# Altium schematic symbol library IC_CpuMcu.SchLib: 6 symbols
Pins are listed as number, name and electrical type; pins without a type are passive.

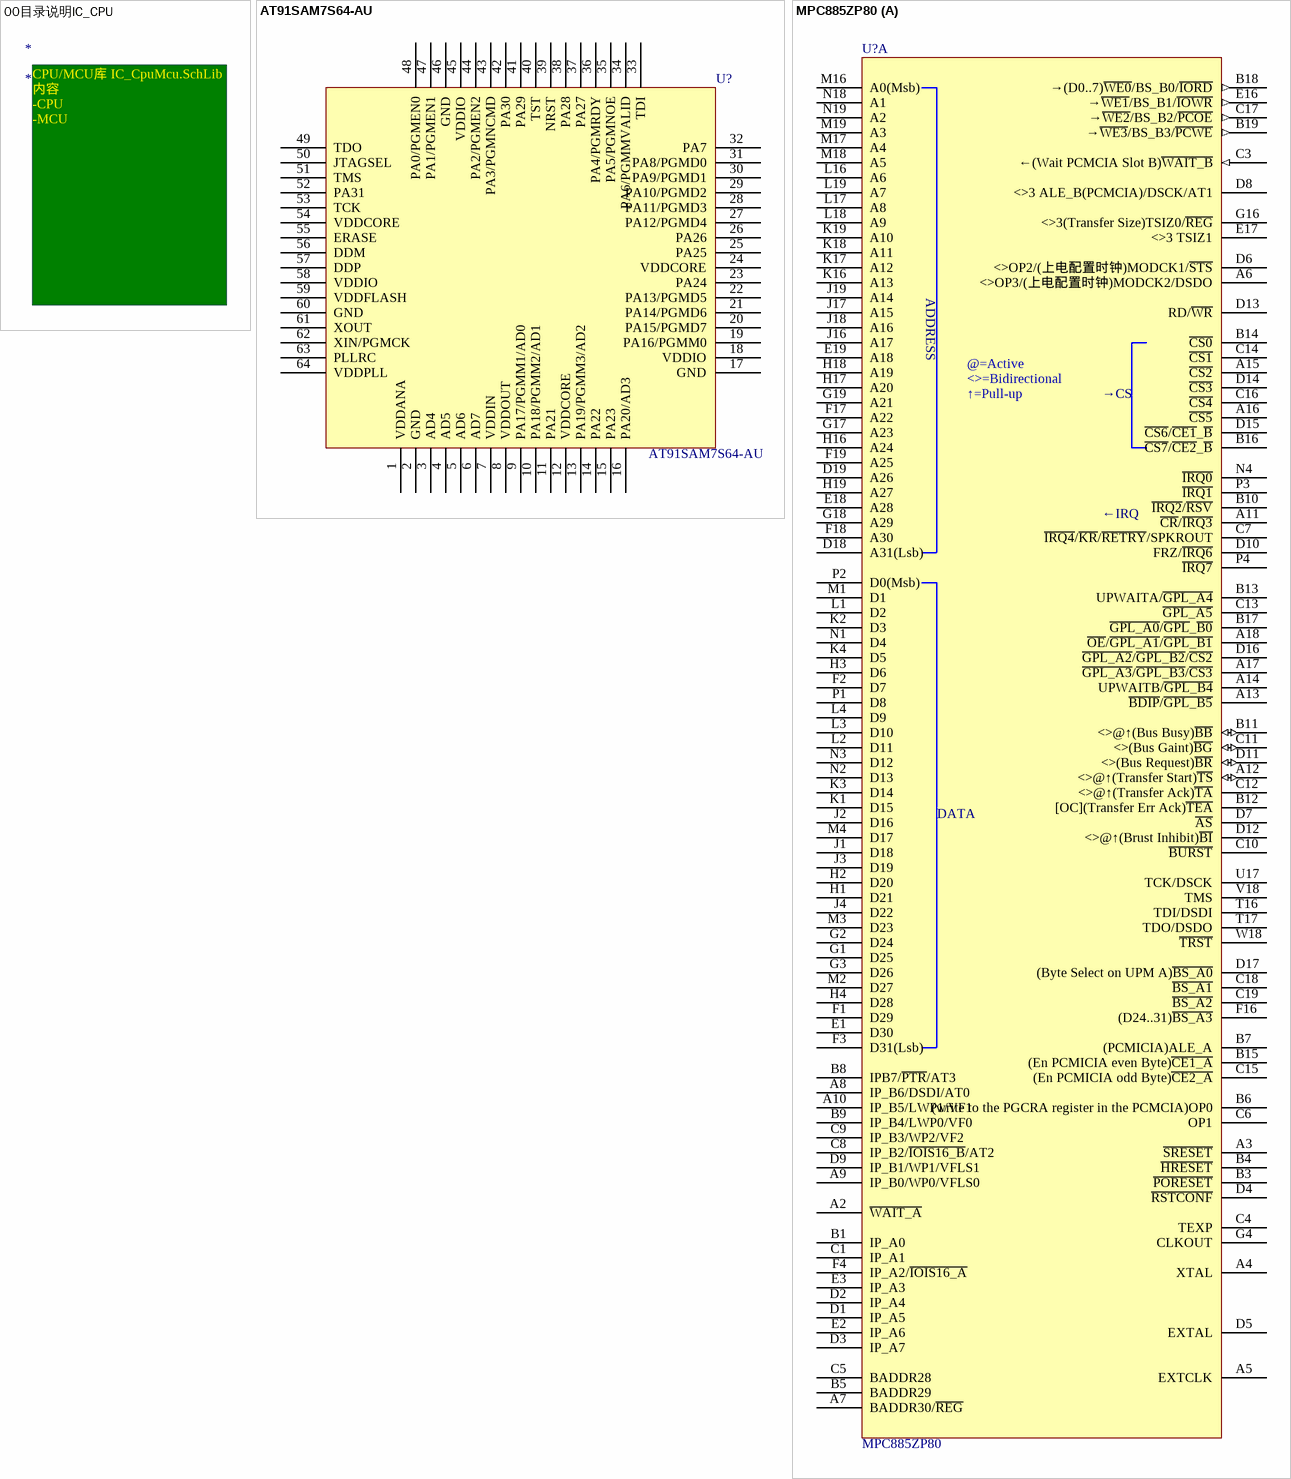
[diagram p0: symbols 00目录说明IC_CPU to MPC885ZP80]

## 00目录说明IC_CPU
designator *
text: CPU/MCU库 IC_CpuMcu.SchLib / 内容 / -CPU / -MCU /

## AT91SAM7S64-AU
designator U?
AT91 ARM@Thumb@-based   Microcontrollers, 64K Flash, 16K SRAM; Manufacturer: ATMEL; Name: ARM7处理器; Ordering NO.: AT91SAM7S64-AU
footprint LQFP64/0.5_10*10 (AT91SAM7S64使用  64引脚)
pins: 1 VDDANA, 2 GND, 3 AD4, 4 AD5, 5 AD6, 6 AD7, 7 VDDIN, 8 VDDOUT, 9 PA17/PGMM1/AD0, 10 PA18/PGMM2/AD1, 11 PA21, 12 VDDCORE, 13 PA19/PGMM3/AD2, 14 PA22, 15 PA23, 16 PA20/AD3, 17 GND, 18 VDDIO, 19 PA16/PGMM0, 20 PA15/PGMD7, 21 PA14/PGMD6, 22 PA13/PGMD5, 23 PA24, 24 VDDCORE, 25 PA25, 26 PA26, 27 PA12/PGMD4, 28 PA11/PGMD3, 29 PA10/PGMD2, 30 PA9/PGMD1, 31 PA8/PGMD0, 32 PA7, 33 TDI, 34 PA6/PGMMVALID, 35 PA5/PGMNOE, 36 PA4/PGMRDY, 37 PA27, 38 PA28, 39 NRST, 40 TST, 41 PA29, 42 PA30, 43 PA3/PGMNCMD, 44 PA2/PGMEN2, 45 VDDIO, 46 GND, 47 PA1/PGMEN1, 48 PA0/PGMEN0, 49 TDO, 50 JTAGSEL, 51 TMS, 52 PA31, 53 TCK, 54 VDDCORE, 55 ERASE, 56 DDM, 57 DDP, 58 VDDIO, 59 VDDFLASH, 60 GND, 61 XOUT, 62 XIN/PGMCK, 63 PLLRC, 64 VDDPLL

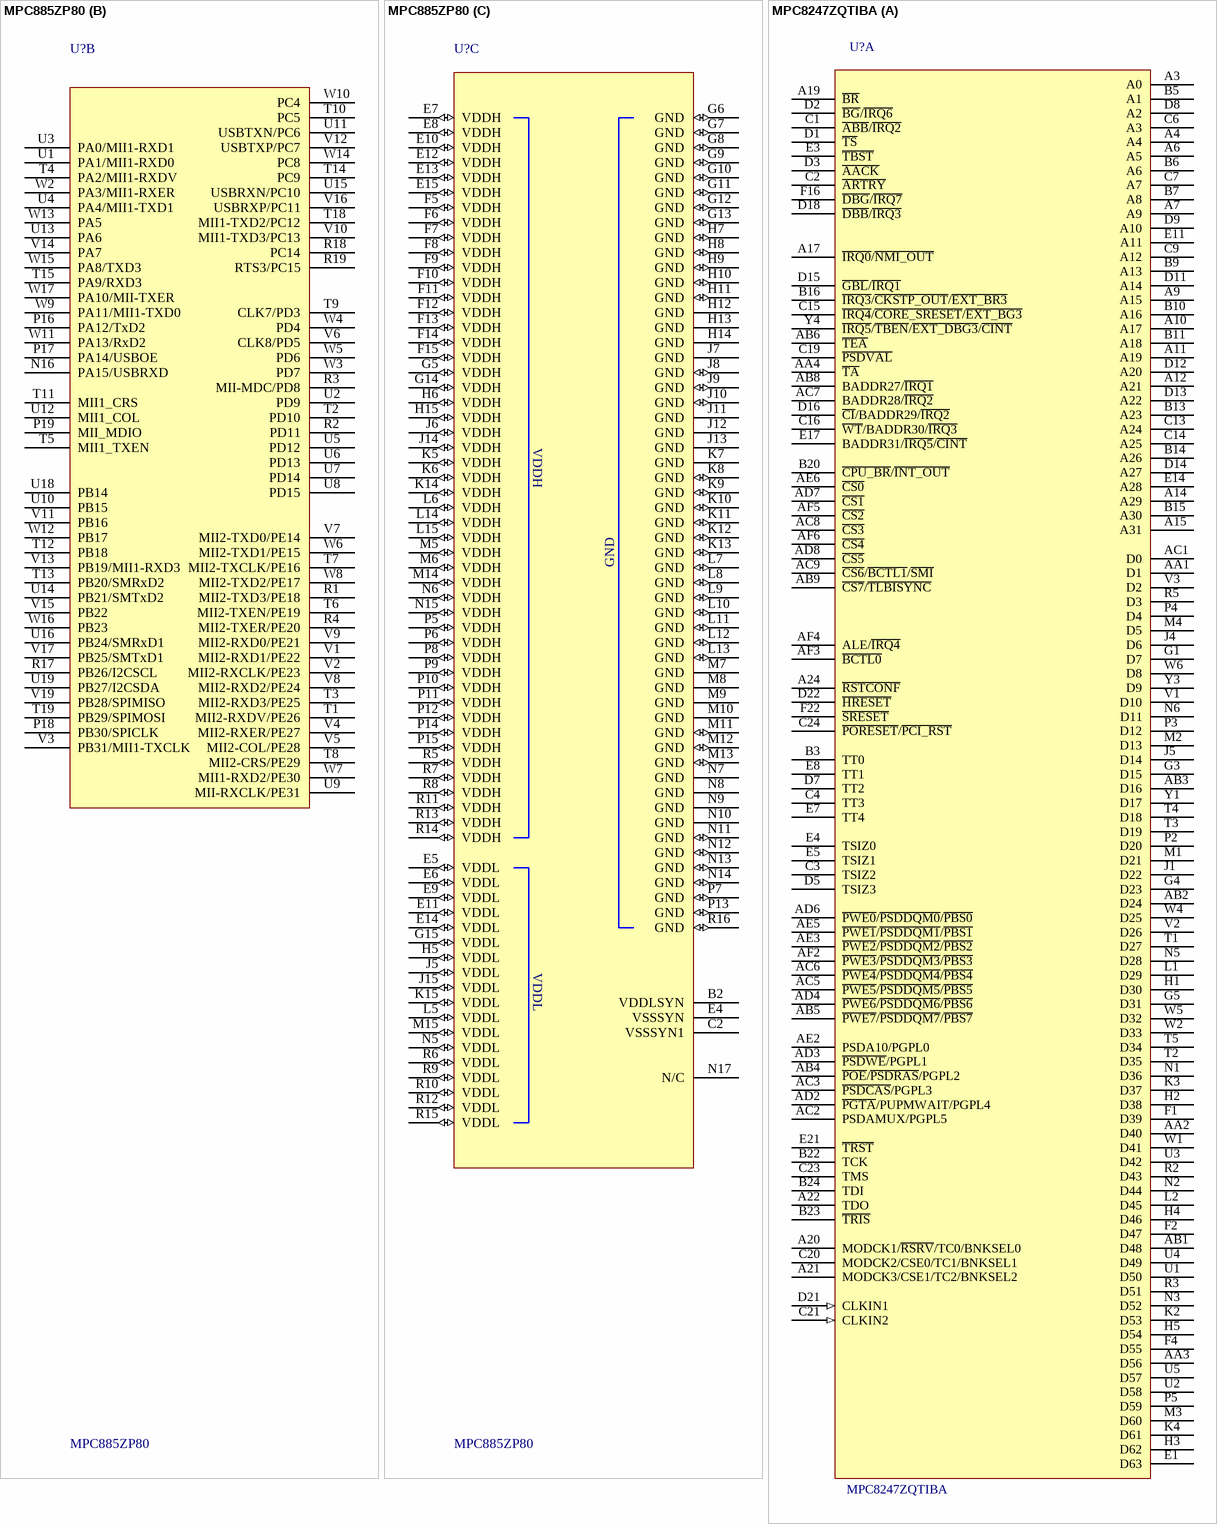
[diagram p1: symbols MPC885ZP80 to MPC8247ZQTIBA]

## MPC885ZP80
designator U?
The CPU on the MPC885/MPC880 is   a 32-bit PowerPC? core that incorporates memory management   units (MMUs) and instruction and data caches and that   implements the PowerPC instruction set.; Manufacturer: Freescale; 物料说明: MPC885; 物料替代型号: MPC885ZP133; 物料型号说明: 有铅80MHz; Name: 微处理器; Price: 120; Ordering NO.: MPC885ZP80
footprint PBGA357/1.27_19*19 (PBGA,357 Leads,pitch=50mil,19行，19列BGA封装)
part A pins: A2 ~{WAIT_A}, A3 ~{SRESET}, A4 XTAL, A5 EXTCLK, A6 <>OP3/(上电配置时钟)MODCK2/DSDO, A7 BADDR30/~{REG}, A8 IP_B6/DSDI/AT0, A9 IP_B0/WP0/VFLS0, A10 IP_B5/LWP1/VF1, A11 ~{CR}/~{IRQ3}, A12 <>@↑(Transfer Start)~{TS} (io), A13 ~{BDIP}/~{GPL_B5}, A14 UPWAITB/~{GPL_B4}, A15 ~{CS2}, A16 ~{CS5}, A17 ~{GPL_A3}/~{GPL_B3}/~{CS3}, A18 ~{OE}/~{GPL_A1}/~{GPL_B1}, B1 IP_A0, B3 ~{PORESET}, B4 ~{HRESET}, B5 BADDR29, B6 (write to the PGCRA register in the PCMCIA)OP0, B7 (PCMICIA)ALE_A, B8 IPB7/~{PTR}/AT3, B9 IP_B4/LWP0/VF0, B10 ~{IRQ2}/~{RSV}, B11 <>@↑(Bus Busy)~{BB} (io), B12 [OC](Transfer Err Ack)~{TEA} (oc), B13 UPWAITA/~{GPL_A4}, B14 ~{CS0}, B15 (En PCMICIA even Byte)~{CE1_A}, B16 ~{CS7}/~{CE2}_~{B}, B17 ~{GPL_A0}/~{GPL}_~{B0}, B18 →(D0..7)~{WE0}/BS_B0/~{IORD} (out), B19 →~{WE3}/BS_B3/~{PCWE} (out), C1 IP_A1, C3 ←(Wait PCMCIA Slot B)~{WAIT_B} (in), C4 TEXP, C5 BADDR28, C6 OP1, C7 ~{IRQ4}/~{KR}/~{RETRY}/SPKROUT, C8 IP_B2/~{IOIS16_B}/AT2, C9 IP_B3/WP2/VF2, C10 ~{BURST}, C11 <>(Bus Gaint)~{BG} (io), C12 <>@↑(Transfer Ack)~{TA}, C13 ~{GPL_A5}, C14 ~{CS1}, C15 (En PCMICIA odd Byte)~{CE2_A}, C16 ~{CS4}, C17 →~{WE2}/BS_B2/~{PCOE} (out), C18 ~{BS_A1}, C19 ~{BS_A2}, D1 IP_A5, D2 IP_A4, D3 IP_A7, D4 ~{RSTCONF}, D5 EXTAL, D6 <>OP2/(上电配置时钟)MODCK1/~{STS}, D7 ~{AS}, D8 <>3 ALE_B(PCMCIA)/DSCK/AT1, D9 IP_B1/WP1/VFLS1, D10 FRZ/~{IRQ6}, D11 <>(Bus Request)~{BR} (io), D12 <>@↑(Brust Inhibit)~{BI}, D13 RD/~{WR}, D14 ~{CS3}, D15 ~{CS6}/~{CE1}_~{B}, D16 ~{GPL_A2}/~{GPL_B2}/~{CS2}, D17 (Byte Select on UPM A)~{BS_A0}, D18 A31(Lsb), D19 A26, E1 D30, E2 IP_A6, E3 IP_A3, E16 →~{WE1}/BS_B1/~{IOWR} (out), E17 <>3 TSIZ1, E18 A28, E19 A18, F1 D29, F2 D7, F3 D31(Lsb), F4 IP_A2/~{IOIS16_A}, F16 (D24..31)~{BS_A3}, F17 A22, F18 A30, F19 A25, G1 D25, G2 D24, G3 D26, G4 CLKOUT, G16 <>3(Transfer Size)TSIZ0/~{REG}, G17 A23, G18 A29, G19 A21, H1 D21, H2 D20, H3 D6, H4 D28, H16 A24, H17 A20, H18 A19, H19 A27, J1 D18, J2 D16, J3 D19, J4 D22, J16 A17, J17 A15, J18 A16, J19 A14, K1 D15, K2 D3, K3 D14, K4 D5, K16 A13, K17 A12, K18 A11, K19 A10, L1 D2, L2 D11, L3 D10, L4 D9, L16 A6, L17 A8, L18 A9, L19 A7, M1 D1, M2 D27, M3 D23, M4 D17, M16 A0(Msb), M17 A4, M18 A5, M19 A3, N1 D4, N2 D13, N3 D12, N4 ~{IRQ0}, N18 A1, N19 A2, P1 D8, P2 D0(Msb), P3 ~{IRQ1}, P4 ~{IRQ7}, T16 TDI/DSDI, T17 TDO/DSDO, U17 TCK/DSCK, V18 TMS, W18 ~{TRST}
part B pins: N16 PA15/USBRXD, P16 PA12/TxD2, P17 PA14/USBOE, P18 PB30/SPICLK, P19 MII_MDIO, R1 MII2-TXD3/PE18, R2 PD11, R3 MII-MDC/PD8, R4 MII2-TXER/PE20, R17 PB26/I2CSCL, R18 PC14, R19 RTS3/PC15, T1 MII2-RXDV/PE26, T2 PD10, T3 MII2-RXD3/PE25, T4 PA2/MII1-RXDV, T5 MII1_TXEN, T6 MII2-TXEN/PE19, T7 MII2-TXCLK/PE16, T8 MII2-CRS/PE29, T9 CLK7/PD3, T10 PC5, T11 MII1_CRS, T12 PB18, T13 PB20/SMRxD2, T14 PC9, T15 PA9/RXD3, T18 MII1-TXD2/PC12, T19 PB29/SPIMOSI, U1 PA1/MII1-RXD0, U2 PD9, U3 PA0/MII1-RXD1, U4 PA4/MII1-TXD1, U5 PD12, U6 PD13, U7 PD14, U8 PD15, U9 MII-RXCLK/PE31, U10 PB15, U11 USBTXN/PC6, U12 MII1_COL, U13 PA6, U14 PB21/SMTxD2, U15 USBRXN/PC10, U16 PB24/SMRxD1, U18 PB14, U19 PB27/I2CSDA, V1 MII2-RXD1/PE22, V2 MII2-RXCLK/PE23, V3 PB31/MII1-TXCLK, V4 MII2-RXER/PE27, V5 MII2-COL/PE28, V6 CLK8/PD5, V7 MII2-TXD0/PE14, V8 MII2-RXD2/PE24, V9 MII2-RXD0/PE21, V10 MII1-TXD3/PC13, V11 PB16, V12 USBTXP/PC7, V13 PB19/MII1-RXD3, V14 PA7, V15 PB22, V16 USBRXP/PC11, V17 PB25/SMTxD1, V19 PB28/SPIMISO, W2 PA3/MII1-RXER, W3 PD7, W4 PD4, W5 PD6, W6 MII2-TXD1/PE15, W7 MII1-RXD2/PE30, W8 MII2-TXD2/PE17, W9 PA11/MII1-TXD0, W10 PC4, W11 PA13/RxD2, W12 PB17, W13 PA5, W14 PC8, W15 PA8/TXD3, W16 PB23, W17 PA10/MII-TXER
part C pins: B2 VDDLSYN, C2 VSSSYN1, E4 VSSSYN, E5 VDDL (io), E6 VDDL (io), E7 VDDH (io), E8 VDDH (io), E9 VDDL (io), E10 VDDH (io), E11 VDDL (io), E12 VDDH (io), E13 VDDH (io), E14 VDDL (io), E15 VDDH (io), F5 VDDH (io), F6 VDDH (io), F7 VDDH (io), F8 VDDH (io), F9 VDDH (io), F10 VDDH (io), F11 VDDH (io), F12 VDDH (io), F13 VDDH (io), F14 VDDH (io), F15 VDDH (io), G5 VDDH (io), G6 GND (io), G7 GND (io), G8 GND (io), G9 GND (io), G10 GND (io), G11 GND (io), G12 GND (io), G13 GND (io), G14 VDDH (io), G15 VDDL (io), H5 VDDL (io), H6 VDDH (io), H7 GND (io), H8 GND (io), H9 GND (io), H10 GND (io), H11 GND (io), H12 GND, H13 GND, H14 GND, H15 VDDH (io), J5 VDDL (io), J6 VDDH (io), J7 GND, J8 GND (io), J9 GND (io), J10 GND (io), J11 GND, J12 GND, J13 GND, J14 VDDH (io), J15 VDDL (io), K5 VDDH (io), K6 VDDH (io), K7 GND, K8 GND (io), K9 GND (io), K10 GND (io), K11 GND (io), K12 GND (io), K13 GND (io), K14 VDDH (io), K15 VDDL (io), L5 VDDL (io), L6 VDDH (io), L7 GND (io), L8 GND (io), L9 GND (io), L10 GND (io), L11 GND (io), L12 GND (io), L13 GND (io), L14 VDDH (io), L15 VDDH (io), M5 VDDH (io), M6 VDDH (io), M7 GND, M8 GND, M9 GND, M10 GND, M11 GND (io), M12 GND (io), M13 GND (io), M14 VDDH (io), M15 VDDL (io), N5 VDDL (io), N6 VDDH (io), N7 GND, N8 GND, N9 GND, N10 GND, N11 GND (io), N12 GND (io), N13 GND (io), N14 GND (io), N15 VDDH (io), N17 N/C, P5 VDDH (io), P6 VDDH (io), P7 GND (io), P8 VDDH (io), P9 VDDH (io), P10 VDDH (io), P11 VDDH (io), P12 VDDH (io), P13 GND (io), P14 VDDH (io), P15 VDDH (io), R5 VDDH (io), R6 VDDL (io), R7 VDDH (io), R8 VDDH (io), R9 VDDL (io), R10 VDDL (io), R11 VDDH (io), R12 VDDL (io), R13 VDDH (io), R14 VDDH (io), R15 VDDL (io), R16 GND (io)
part A text: ADDRESS; @=Active; <>=Bidirectional; ↑=Pull-up; →CS; ←IRQ; DATA

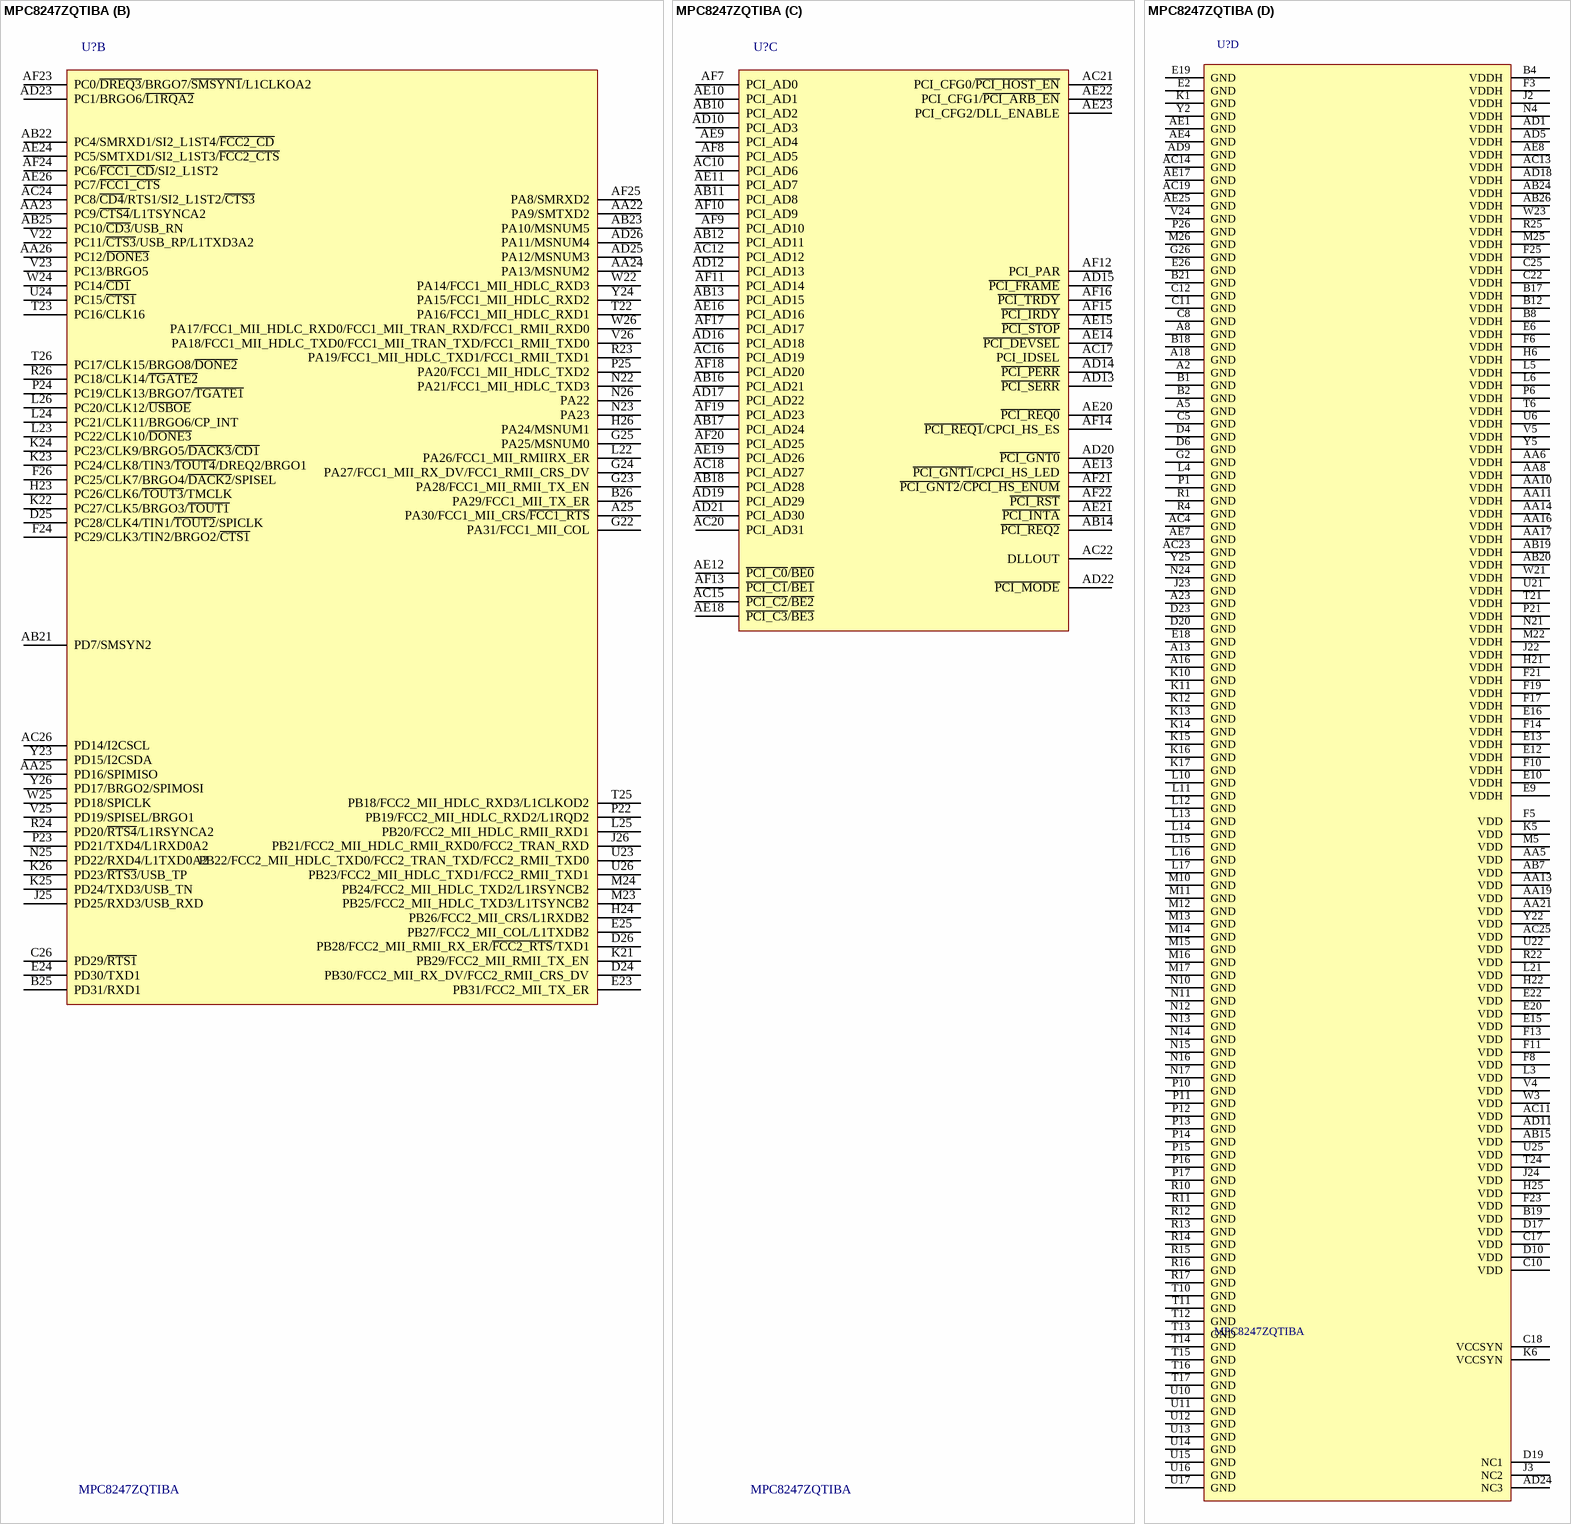
[diagram p2: symbol MPC8247ZQTIBA]

## MPC8247ZQTIBA
designator U?
PowerQUICC II Family  Hardware Specifications; Manufacturer: Freescale; Name: 微处理器; Ordering NO.: MPC8247ZQTIBA
footprint PBGA516/1.0_26*26
part A pins: A3 A0, A4, A6 A5, A7 A9, A9 A15, A10 A17, A11 A19, A12 A21, A14 A29, A15 A31, A17 ~{IRQ0}/~{NMI_OUT}, A19 ~{BR}, A20 MODCK1/~{RSRV}/TC0/BNKSEL0, A21 MODCK3/CSE1/TC2/BNKSEL2, A22 TDO, A24 ~{RSTCONF}, AA1 D1, AA2 D40, AA3 D56, AA4 ~{TA}, AB1 D48, AB2 D24, AB3 D16, AB4 ~{POE}/~{PSDRAS}/PGPL2, AB5 ~{PWE7}/~{PSDDQM7}/~{PBS7}, AB6 ~{TEA}, AB8 BADDR27/~{IRQ1}, AB9 ~{CS7}/~{TLBISYNC}, AC1 D0, AC2 PSDAMUX/PGPL5, AC3 ~{PSDCAS}/PGPL3, AC5 ~{PWE5}/~{PSDDQM5}/~{PBS5}, AC6 ~{PWE4}/~{PSDDQM4}/~{PBS4}, AC7 BADDR28/~{IRQ2}, AC8 ~{CS3}, AC9 ~{CS6}/~{BCTL1}/~{SMI}, AD2 ~{PGTA}/PUPMWAIT/PGPL4, AD3 ~{PSDWE}/PGPL1, AD4 ~{PWE6}/~{PSDDQM6}/~{PBS6}, AD6 ~{PWE0}/~{PSDDQM0}/~{PBS0}, AD7 ~{CS1}, AD8 ~{CS5}, AE2 PSDA10/PGPL0, AE3 ~{PWE2}/~{PSDDQM2}/~{PBS2}, AE5 ~{PWE1}/~{PSDDQM1}/~{PBS1}, AE6 ~{CS0}, AF2 ~{PWE3}/~{PSDDQM3}/~{PBS3}, AF3 ~{BCTL0}, AF4 ALE/~{IRQ4}, AF5 ~{CS2}, AF6 ~{CS4}, B3 TT0, B5 A1, B6 A6, B7 A8, B9 A13, B10 A16, B11 A18, B13 A23, B14 A26, B15 A30, B16 ~{IRQ3}/~{CKSTP_OUT}/~{EXT_BR3}, B20 ~{CPU_BR}/~{INT_OUT}, B22 TCK, B23 ~{TRIS}, B24 TDI, C1 ~{ABB}/~{IRQ2}, C2 ~{ARTRY}, C3 TSIZ2, C4 TT3, C6 A3, C7 A7, C9 A12, C13 A24, C14 A25, C15 ~{IRQ4}/~{CORE_SRESET}/~{EXT_BG3}, C16 ~{WT}/BADDR30/~{IRQ3}, C19 ~{PSDVAL}, C20 MODCK2/CSE0/TC1/BNKSEL1, C21 CLKIN2 (in), C23 TMS, C24 ~{PORESET}/~{PCI_RST}, D1 ~{TS}, D2 ~{BG}/~{IRQ6}, D3 ~{AACK}, D5 TSIZ3, D7 TT2, D8 A2, D9 A10, D11 A14, D12 A20, D13 A22, D14 A27, D15 ~{GBL}/~{IRQ1}, D16 ~{CI}/BADDR29/~{IRQ2}, D18 ~{DBB}/~{IRQ3}, D21 CLKIN1 (in), D22 ~{HRESET}, E1 D63, E3 ~{TBST}, E4 TSIZ0, E5 TSIZ1, E7 TT4, E8 TT1, E11 A11, E14 A28, E17 BADDR31/~{IRQ5}/~{CINT}, E21 ~{TRST}, F1 D39, F2 D47, F4 D55, F16 ~{DBG}/~{IRQ7}, F22 ~{SRESET}, G1 D7, G3 D15, G4 D23, G5 D31, H1 D30, H2 D38, H3 D62, H4 D46, H5 D54, J1 D22, J4 D6, J5 D14, K2 D53, K3 D37, K4 D61, L1 D29, L2 D45, M1 D21, M2 D13, M3 D60, M4 D5, N1 D36, N2 D44, N3 D52, N5 D28, N6 D11, P2 D20, P3 D12, P4 D4, P5 D59, R2 D43, R3 D51, R5 D3, T1 D27, T2 D35, T3 D19, T4 D18, T5 D34, U1 D50, U2 D58, U3 D42, U4 D49, U5 D57, V1 D10, V2 D26, V3 D2, W1 D41, W2 D33, W4 D25, W5 D32, W6 D8, Y1 D17, Y3 D9, Y4 ~{IRQ5}/~{TBEN}/~{EXT_DBG3}/~{CINT}
part B pins: A25 PA30/FCC1_MII_CRS/~{FCC1_RTS}, AA22 PA9/SMTXD2, AA23 PC9/~{CTS4}/L1TSYNCA2, AA24 PA13/MSNUM2, AA25 PD16/SPIMISO, AA26 PC12/~{DONE3}, AB21 PD7/SMSYN2, AB22 PC4/SMRXD1/SI2_L1ST4/~{FCC2_CD}, AB23 PA10/MSNUM5, AB25 PC10/~{CD3}/USB_RN, AC24 PC8/~{CD4}/RTS1/SI2_L1ST2/~{CTS3}, AC26 PD14/I2CSCL, AD23 PC1/BRGO6/~{L1RQA2}, AD25 PA12/MSNUM3, AD26 PA11/MSNUM4, AE24 PC5/SMTXD1/SI2_L1ST3/~{FCC2_CTS}, AE26 PC7/~{FCC1_CTS}, AF23 PC0/~{DREQ3}/BRGO7/~{SMSYN1}/L1CLKOA2, AF24 PC6/~{FCC1_CD}/SI2_L1ST2, AF25 PA8/SMRXD2, B25 PD31/RXD1, B26 PA29/FCC1_MII_TX_ER, C26 PD29/~{RTS1}, D24 PB30/FCC2_MII_RX_DV/FCC2_RMII_CRS_DV, D25 PC28/CLK4/TIN1/~{TOUT2}/SPICLK, D26 PB28/FCC2_MII_RMII_RX_ER/~{FCC2_RTS}/TXD1, E23 PB31/FCC2_MII_TX_ER, E24 PD30/TXD1, E25 PB27/FCC2_MII_COL/L1TXDB2, F24 PC29/CLK3/TIN2/BRGO2/~{CTS1}, F26 PC25/CLK7/BRGO4/~{DACK2}/SPISEL, G22 PA31/FCC1_MII_COL, G23 PA28/FCC1_MII_RMII_TX_EN, G24 PA27/FCC1_MII_RX_DV/FCC1_RMII_CRS_DV, G25 PA25/MSNUM0, H23 PC26/CLK6/~{TOUT3}/TMCLK, H24 PB26/FCC2_MII_CRS/L1RXDB2, H26 PA24/MSNUM1, J25 PD25/RXD3/USB_RXD, J26 PB21/FCC2_MII_HDLC_RMII_RXD0/FCC2_TRAN_RXD, K21 PB29/FCC2_MII_RMII_TX_EN, K22 PC27/CLK5/BRGO3/~{TOUT1}, K23 PC24/CLK8/TIN3/~{TOUT4}/DREQ2/BRGO1, K24 PC23/CLK9/BRGO5/~{DACK3}/~{CD1}, K25 PD24/TXD3/USB_TN, K26 PD23/~{RTS3}/USB_TP, L22 PA26/FCC1_MII_RMIIRX_ER, L23 PC22/CLK10/~{DONE3}, L24 PC21/CLK11/BRGO6/CP_INT, L25 PB20/FCC2_MII_HDLC_RMII_RXD1, L26 PC20/CLK12/~{USBOE}, M23 PB25/FCC2_MII_HDLC_TXD3/L1TSYNCB2, M24 PB24/FCC2_MII_HDLC_TXD2/L1RSYNCB2, N22 PA21/FCC1_MII_HDLC_TXD3, N23 PA23, N25 PD22/RXD4/L1TXD0A2, N26 PA22, P22 PB19/FCC2_MII_HDLC_RXD2/L1RQD2, P23 PD21/TXD4/L1RXD0A2, P24 PC19/CLK13/BRGO7/~{TGATE1}, P25 PA20/FCC1_MII_HDLC_TXD2, R23 PA19/FCC1_MII_HDLC_TXD1/FCC1_RMII_TXD1, R24 PD20/~{RTS4}/L1RSYNCA2, R26 PC18/CLK14/~{TGATE2}, T22 PA16/FCC1_MII_HDLC_RXD1, T23 PC16/CLK16, T25 PB18/FCC2_MII_HDLC_RXD3/L1CLKOD2, T26 PC17/CLK15/BRGO8/~{DONE2}, U23 PB22/FCC2_MII_HDLC_TXD0/FCC2_TRAN_TXD/FCC2_RMII_TXD0, U24 PC15/~{CTS1}, U26 PB23/FCC2_MII_HDLC_TXD1/FCC2_RMII_TXD1, V22 PC11/~{CTS3}/USB_RP/L1TXD3A2, V23 PC13/BRGO5, V25 PD19/SPISEL/BRGO1, V26 PA18/FCC1_MII_HDLC_TXD0/FCC1_MII_TRAN_TXD/FCC1_RMII_TXD0, W22 PA14/FCC1_MII_HDLC_RXD3, W24 PC14/~{CD1}, W25 PD18/SPICLK, W26 PA17/FCC1_MII_HDLC_RXD0/FCC1_MII_TRAN_RXD/FCC1_RMII_RXD0, Y23 PD15/I2CSDA, Y24 PA15/FCC1_MII_HDLC_RXD2, Y26 PD17/BRGO2/SPIMOSI
part C pins: AB10 PCI_AD2, AB11 PCI_AD8, AB12 PCI_AD11, AB13 PCI_AD15, AB14 ~{PCI_REQ2}, AB16 PCI_AD21, AB17 PCI_AD24, AB18 PCI_AD28, AC10 PCI_AD6, AC12 PCI_AD12, AC15 ~{PCI_C2}/~{BE2}, AC16 PCI_AD19, AC17 PCI_IDSEL, AC18 PCI_AD27, AC20 PCI_AD31, AC21 PCI_CFG0/~{PCI_HOST_EN}, AC22 DLLOUT, AD10 PCI_AD3, AD12 PCI_AD13, AD13 ~{PCI_SERR}, AD14 ~{PCI_PERR}, AD15 ~{PCI_FRAME}, AD16 PCI_AD18, AD17 PCI_AD22, AD19 PCI_AD29, AD20 ~{PCI_GNT0}, AD21 PCI_AD30, AD22 ~{PCI_MODE}, AE9 PCI_AD4, AE10 PCI_AD1, AE11 PCI_AD7, AE12 ~{PCI_C0}/~{BE0}, AE13 ~{PCI_GNT1}/CPCI_HS_LED, AE14 ~{PCI_DEVSEL}, AE15 ~{PCI_STOP}, AE16 PCI_AD16, AE18 ~{PCI_C3}/~{BE3}, AE19 PCI_AD26, AE20 ~{PCI_REQ0}, AE21 ~{PCI_INTA}, AE22 PCI_CFG1/~{PCI_ARB_EN}, AE23 PCI_CFG2/DLL_ENABLE, AF7 PCI_AD0, AF8 PCI_AD5, AF9 PCI_AD10, AF10 PCI_AD9, AF11 PCI_AD14, AF12 PCI_PAR, AF13 ~{PCI_C1}/~{BE1}, AF14 ~{PCI_REQ1}/CPCI_HS_ES, AF15 ~{PCI_IRDY}, AF16 ~{PCI_TRDY}, AF17 PCI_AD17, AF18 PCI_AD20, AF19 PCI_AD23, AF20 PCI_AD25, AF21 ~{PCI_GNT2}/~{CPCI_HS_ENUM}, AF22 ~{PCI_RST}
part D pins: A2 GND (power), A5 GND (power), A8 GND (power), A13 GND (power), A16 GND (power), A18 GND (power), A23 GND (power), AA5 VDD (power), AA6 VDDH (power), AA8 VDDH (power), AA10 VDDH (power), AA11 VDDH (power), AA13 VDD (power), AA14 VDDH (power), AA16 VDDH (power), AA17 VDDH (power), AA19 VDD (power), AA21 VDD (power), AB7 VDD (power), AB15 VDD (power), AB19 VDDH (power), AB20 VDDH (power), AB24 VDDH (power), AB26 VDDH (power), AC4 GND (power), AC11 VDD (power), AC13 VDDH (power), AC14 GND (power), AC19 GND (power), AC23 GND (power), AC25 VDD (power), AD1 VDDH (power), AD5 VDDH (power), AD9 GND (power), AD11 VDD (power), AD18 VDDH (power), AD24 NC3, AE1 GND (power), AE4 GND (power), AE7 GND (power), AE8 VDDH (power), AE17 GND (power), AE25 GND (power), B1 GND (power), B2 GND (power), B4 VDDH (power), B8 VDDH (power), B12 VDDH (power), B17 VDDH (power), B18 GND (power), B19 VDD (power), B21 GND (power), C5 GND (power), C8 GND (power), C10 VDD (power), C11 GND (power), C12 GND (power), C17 VDD (power), C18 VCCSYN (power), C22 VDDH (power), C25 VDDH (power), D4 GND (power), D6 GND (power), D10 VDD (power), D17 VDD (power), D19 NC1, D20 GND (power), D23 GND (power), E2 GND (power), E6 VDDH (power), E9 VDDH (power), E10 VDDH (power), E12 VDDH (power), E13 VDDH (power), E15 VDD (power), E16 VDDH (power), E18 GND (power), E19 GND (power), E20 VDD (power), E22 VDD (power), E26 GND (power), F3 VDDH (power), F5 VDD (power), F6 VDDH (power), F8 VDD (power), F10 VDDH (power), F11 VDD (power), F13 VDD (power), F14 VDDH (power), F17 VDDH (power), F19 VDDH (power), F21 VDDH (power), F23 VDD (power), F25 VDDH (power), G2 GND (power), G26 GND (power), H6 VDDH (power), H21 VDDH (power), H22 VDD (power), H25 VDD (power), J2 VDDH (power), J3 NC2, J22 VDDH (power), J23 GND (power), J24 VDD (power), K1 GND (power), K5 VDD (power), K6 VCCSYN (power), K10 GND (power), K11 GND (power), K12 GND (power), K13 GND (power), K14 GND (power), K15 GND (power), K16 GND (power), K17 GND (power), L3 VDD (power), L4 GND (power), L5 VDDH (power), L6 VDDH (power), L10 GND (power), L11 GND (power), L12 GND (power), L13 GND (power), L14 GND (power), L15 GND (power), L16 GND (power), L17 GND (power), L21 VDD (power), M5 VDD (power), M10 GND (power), M11 GND (power), M12 GND (power), M13 GND (power), M14 GND (power), M15 GND (power), M16 GND (power), M17 GND (power), M22 VDDH (power), M25 VDDH (power), M26 GND (power), N4 VDDH (power), N10 GND (power), N11 GND (power), N12 GND (power), N13 GND (power), N14 GND (power), N15 GND (power), N16 GND (power), N17 GND (power), N21 VDDH (power), N24 GND (power), P1 GND (power), P6 VDDH (power), P10 GND (power), P11 GND (power), P12 GND (power), P13 GND (power), P14 GND (power), P15 GND (power), P16 GND (power), P17 GND (power), P21 VDDH (power), P26 GND (power), R1 GND (power), R4 GND (power), R10 GND (power), R11 GND (power), R12 GND (power), R13 GND (power), R14 GND (power), R15 GND (power), R16 GND (power), R17 GND (power), R22 VDD (power), R25 VDDH (power), T6 VDDH (power), T10 GND (power), T11 GND (power), T12 GND (power), T13 GND (power), T14 GND (power), T15 GND (power), T16 GND (power), T17 GND (power), T21 VDDH (power), T24 VDD (power), U6 VDDH (power), U10 GND (power), U11 GND (power), U12 GND (power), U13 GND (power), U14 GND (power), U15 GND (power), U16 GND (power), U17 GND (power), U21 VDDH (power), U22 VDD (power), U25 VDD (power), V4 VDD (power), V5 VDDH (power), V24 GND (power), W3 VDD (power), W21 VDDH (power), W23 VDDH (power), Y2 GND (power), Y5 VDDH (power), Y22 VDD (power), Y25 GND (power)

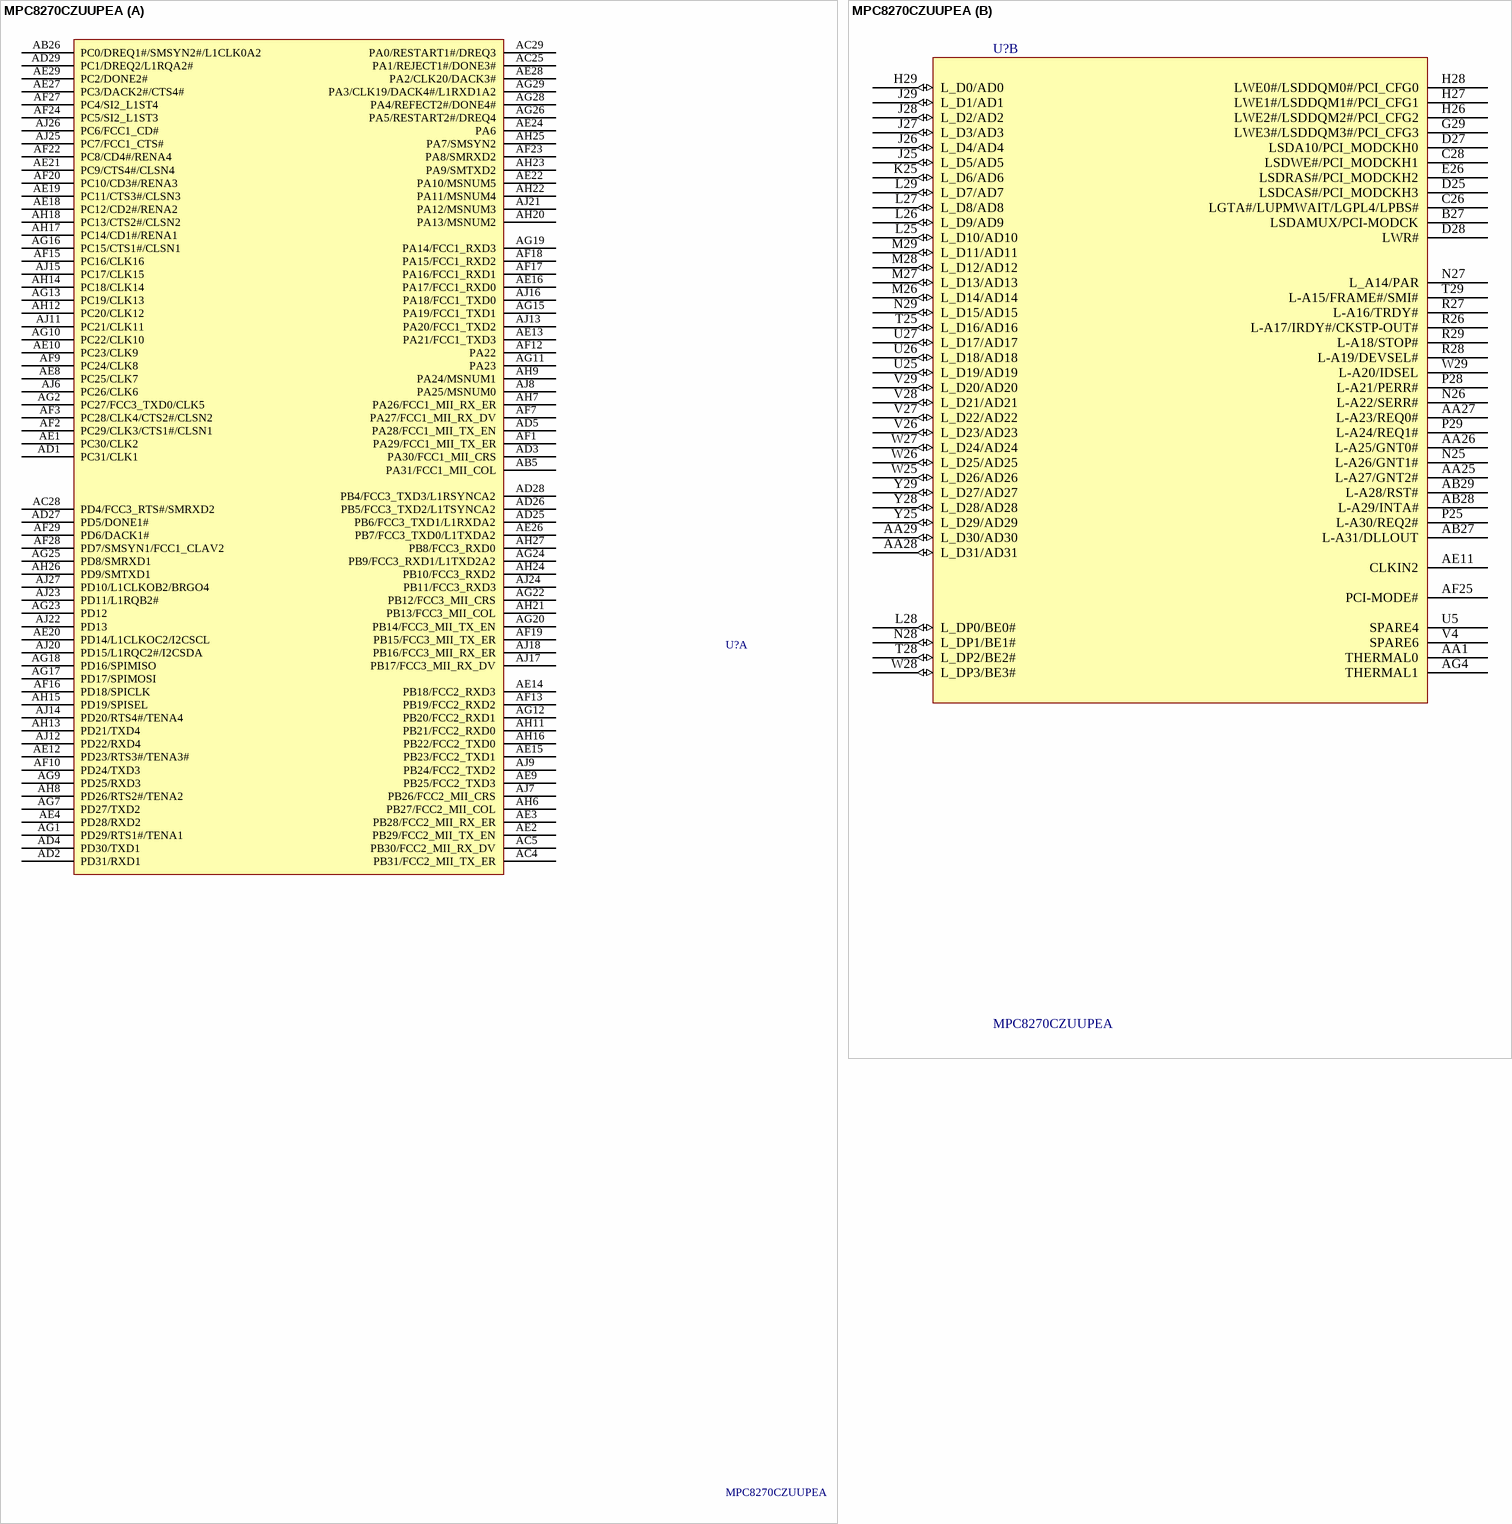
[diagram p3: symbol MPC8270CZUUPEA]

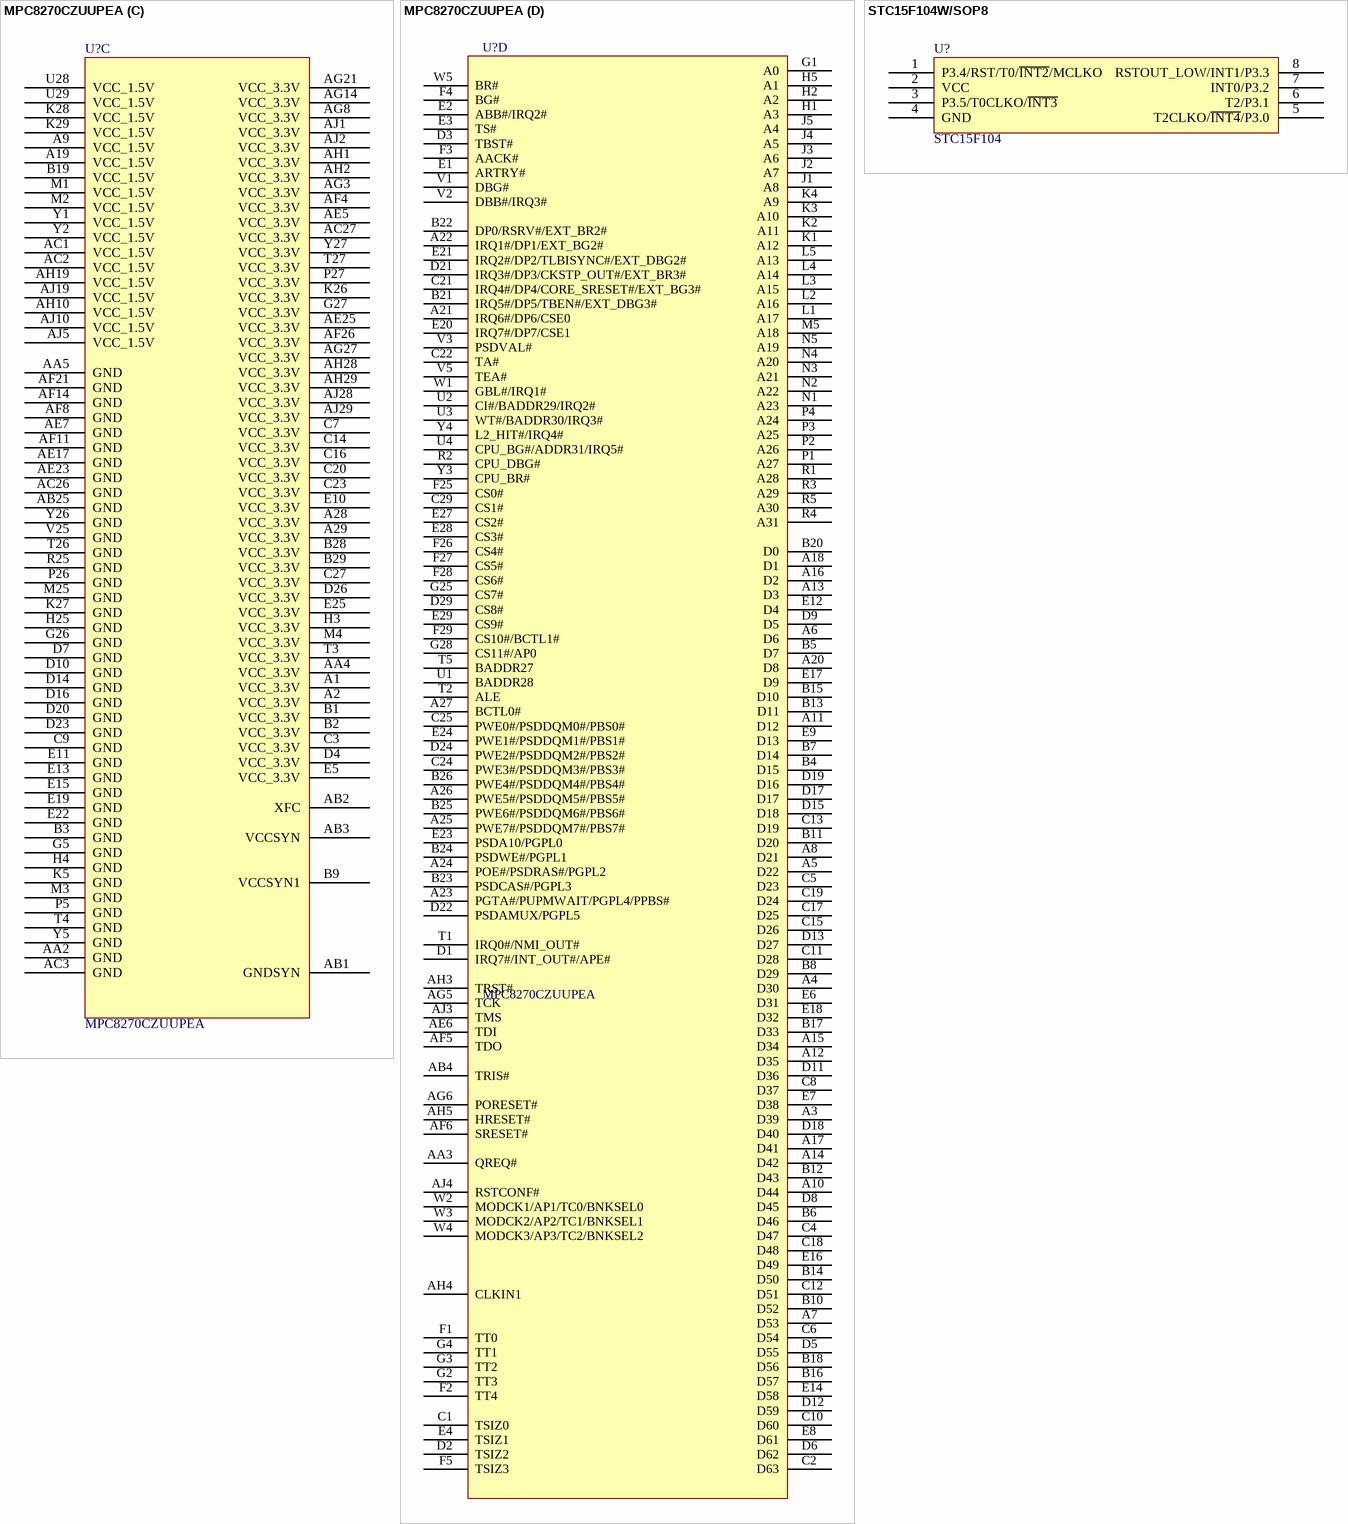
[diagram p4: symbols MPC8270CZUUPEA to STC15F104W/SOP8]

## MPC8270CZUUPEA
designator U?
PQ2:450MHz主频100MHz总线; Manufacturer: Freescale; Name: 微处理器; 物料型号说明: 主频450MHz总线100MHz; Price: 350; 物料替代型号: n/a; Ordering NO.: MPC8270CZUUPEA
footprint TBGA480/1.27_29*29 (TBGA,480 Leads,Pitch=50mil (1.27mm),29行，29列)
part A pins: AB5 PA31/FCC1_MII_COL, AB26 PC0/DREQ1#/SMSYN2#/L1CLK0A2, AC4 PB31/FCC2_MII_TX_ER, AC5 PB30/FCC2_MII_RX_DV, AC25 PA1/REJECT1#/DONE3#, AC28 PD4/FCC3_RTS#/SMRXD2, AC29 PA0/RESTART1#/DREQ3, AD1 PC31/CLK1, AD2 PD31/RXD1, AD3 PA30/FCC1_MII_CRS, AD4 PD30/TXD1, AD5 PA28/FCC1_MII_TX_EN, AD25 PB6/FCC3_TXD1/L1RXDA2, AD26 PB5/FCC3_TXD2/L1TSYNCA2, AD27 PD5/DONE1#, AD28 PB4/FCC3_TXD3/L1RSYNCA2, AD29 PC1/DREQ2/L1RQA2#, AE1 PC30/CLK2, AE2 PB29/FCC2_MII_TX_EN, AE3 PB28/FCC2_MII_RX_ER, AE4 PD28/RXD2, AE8 PC25/CLK7, AE9 PB25/FCC2_TXD3, AE10 PC23/CLK9, AE12 PD23/RTS3#/TENA3#, AE13 PA21/FCC1_TXD3, AE14 PB18/FCC2_RXD3, AE15 PB23/FCC2_TXD1, AE16 PA17/FCC1_RXD0, AE18 PC12/CD2#/RENA2, AE19 PC11/CTS3#/CLSN3, AE20 PD14/L1CLKOC2/I2CSCL, AE21 PC9/CTS4#/CLSN4, AE22 PA10/MSNUM5, AE24 PA6, AE26 PB7/FCC3_TXD0/L1TXDA2, AE27 PC3/DACK2#/CTS4#, AE28 PA2/CLK20/DACK3#, AE29 PC2/DONE2#, AF1 PA29/FCC1_MII_TX_ER, AF2 PC29/CLK3/CTS1#/CLSN1, AF3 PC28/CLK4/CTS2#/CLSN2, AF7 PA27/FCC1_MII_RX_DV, AF9 PC24/CLK8, AF10 PD24/TXD3, AF12 PA22, AF13 PB19/FCC2_RXD2, AF15 PC16/CLK16, AF16 PD18/SPICLK, AF17 PA16/FCC1_RXD1, AF18 PA15/FCC1_RXD2, AF19 PB15/FCC3_MII_TX_ER, AF20 PC10/CD3#/RENA3, AF22 PC8/CD4#/RENA4, AF23 PA8/SMRXD2, AF24 PC5/SI2_L1ST3, AF27 PC4/SI2_L1ST4, AF28 PD7/SMSYN1/FCC1_CLAV2, AF29 PD6/DACK1#, AG1 PD29/RTS1#/TENA1, AG2 PC27/FCC3_TXD0/CLK5, AG7 PD27/TXD2, AG9 PD25/RXD3, AG10 PC22/CLK10, AG11 PA23, AG12 PB20/FCC2_RXD1, AG13 PC19/CLK13, AG15 PA19/FCC1_TXD1, AG16 PC15/CTS1#/CLSN1, AG17 PD17/SPIMOSI, AG18 PD16/SPIMISO, AG19 PA14/FCC1_RXD3, AG20 PB14/FCC3_MII_TX_EN, AG22 PB12/FCC3_MII_CRS, AG23 PD12, AG24 PB9/FCC3_RXD1/L1TXD2A2, AG25 PD8/SMRXD1, AG26 PA5/RESTART2#/DREQ4, AG28 PA4/REFECT2#/DONE4#, AG29 PA3/CLK19/DACK4#/L1RXD1A2, AH6 PB27/FCC2_MII_COL, AH7 PA26/FCC1_MII_RX_ER, AH8 PD26/RTS2#/TENA2, AH9 PA24/MSNUM1, AH11 PB21/FCC2_RXD0, AH12 PC20/CLK12, AH13 PD21/TXD4, AH14 PC18/CLK14, AH15 PD19/SPISEL, AH16 PB22/FCC2_TXD0, AH17 PC14/CD1#/RENA1, AH18 PC13/CTS2#/CLSN2, AH20 PA13/MSNUM2, AH21 PB13/FCC3_MII_COL, AH22 PA11/MSNUM4, AH23 PA9/SMTXD2, AH24 PB10/FCC3_RXD2, AH25 PA7/SMSYN2, AH26 PD9/SMTXD1, AH27 PB8/FCC3_RXD0, AJ6 PC26/CLK6, AJ7 PB26/FCC2_MII_CRS, AJ8 PA25/MSNUM0, AJ9 PB24/FCC2_TXD2, AJ11 PC21/CLK11, AJ12 PD22/RXD4, AJ13 PA20/FCC1_TXD2, AJ14 PD20/RTS4#/TENA4, AJ15 PC17/CLK15, AJ16 PA18/FCC1_TXD0, AJ17 PB17/FCC3_MII_RX_DV, AJ18 PB16/FCC3_MII_RX_ER, AJ20 PD15/L1RQC2#/I2CSDA, AJ21 PA12/MSNUM3, AJ22 PD13, AJ23 PD11/L1RQB2#, AJ24 PB11/FCC3_RXD3, AJ25 PC7/FCC1_CTS#, AJ26 PC6/FCC1_CD#, AJ27 PD10/L1CLKOB2/BRGO4
part B pins: AA1 THERMAL0, AA25 L-A27/GNT2#, AA26 L-A25/GNT0#, AA27 L-A23/REQ0#, AA28 L_D31/AD31 (io), AA29 L_D30/AD30 (io), AB27 L-A31/DLLOUT, AB28 L-A29/INTA#, AB29 L-A28/RST#, AE11 CLKIN2, AF25 PCI-MODE#, AG4 THERMAL1, B27 LSDAMUX/PCI-MODCK, C26 LGTA#/LUPMWAIT/LGPL4/LPBS#, C28 LSDWE#/PCI_MODCKH1, D25 LSDCAS#/PCI_MODCKH3, D27 LSDA10/PCI_MODCKH0, D28 LWR#, E26 LSDRAS#/PCI_MODCKH2, G29 LWE3#/LSDDQM3#/PCI_CFG3, H26 LWE2#/LSDDQM2#/PCI_CFG2, H27 LWE1#/LSDDQM1#/PCI_CFG1, H28 LWE0#/LSDDQM0#/PCI_CFG0, H29 L_D0/AD0 (io), J25 L_D5/AD5 (io), J26 L_D4/AD4 (io), J27 L_D3/AD3 (io), J28 L_D2/AD2 (io), J29 L_D1/AD1 (io), K25 L_D6/AD6 (io), L25 L_D10/AD10 (io), L26 L_D9/AD9 (io), L27 L_D8/AD8 (io), L28 L_DP0/BE0# (io), L29 L_D7/AD7 (io), M26 L_D14/AD14 (io), M27 L_D13/AD13 (io), M28 L_D12/AD12 (io), M29 L_D11/AD11 (io), N25 L-A26/GNT1#, N26 L-A22/SERR#, N27 L_A14/PAR, N28 L_DP1/BE1# (io), N29 L_D15/AD15 (io), P25 L-A30/REQ2#, P28 L-A21/PERR#, P29 L-A24/REQ1#, R26 L-A17/IRDY#/CKSTP-OUT#, R27 L-A16/TRDY#, R28 L-A19/DEVSEL#, R29 L-A18/STOP#, T25 L_D16/AD16 (io), T28 L_DP2/BE2# (io), T29 L-A15/FRAME#/SMI#, U5 SPARE4, U25 L_D19/AD19 (io), U26 L_D18/AD18 (io), U27 L_D17/AD17 (io), V4 SPARE6, V26 L_D23/AD23 (io), V27 L_D22/AD22 (io), V28 L_D21/AD21 (io), V29 L_D20/AD20 (io), W25 L_D26/AD26 (io), W26 L_D25/AD25 (io), W27 L_D24/AD24 (io), W28 L_DP3/BE3# (io), W29 L-A20/IDSEL, Y25 L_D29/AD29 (io), Y28 L_D28/AD28 (io), Y29 L_D27/AD27 (io)
part C pins: A1 VCC_3.3V (power), A2 VCC_3.3V (power), A9 VCC_1.5V (power), A19 VCC_1.5V (power), A28 VCC_3.3V (power), A29 VCC_3.3V (power), AA2 GND (power), AA4 VCC_3.3V (power), AA5 GND (power), AB1 GNDSYN, AB2 XFC, AB3 VCCSYN, AB25 GND (power), AC1 VCC_1.5V (power), AC2 VCC_1.5V (power), AC3 GND (power), AC26 GND (power), AC27 VCC_3.3V (power), AE5 VCC_3.3V (power), AE7 GND (power), AE17 GND (power), AE23 GND (power), AE25 VCC_3.3V (power), AF4 VCC_3.3V (power), AF8 GND (power), AF11 GND (power), AF14 GND (power), AF21 GND (power), AF26 VCC_3.3V (power), AG3 VCC_3.3V (power), AG8 VCC_3.3V (power), AG14 VCC_3.3V (power), AG21 VCC_3.3V (power), AG27 VCC_3.3V (power), AH1 VCC_3.3V (power), AH2 VCC_3.3V (power), AH10 VCC_1.5V (power), AH19 VCC_1.5V (power), AH28 VCC_3.3V (power), AH29 VCC_3.3V (power), AJ1 VCC_3.3V (power), AJ2 VCC_3.3V (power), AJ5 VCC_1.5V (power), AJ10 VCC_1.5V (power), AJ19 VCC_1.5V (power), AJ28 VCC_3.3V (power), AJ29 VCC_3.3V (power), B1 VCC_3.3V (power), B2 VCC_3.3V (power), B3 GND (power), B9 VCCSYN1, B19 VCC_1.5V (power), B28 VCC_3.3V (power), B29 VCC_3.3V (power), C3 VCC_3.3V (power), C7 VCC_3.3V (power), C9 GND (power), C14 VCC_3.3V (power), C16 VCC_3.3V (power), C20 VCC_3.3V (power), C23 VCC_3.3V (power), C27 VCC_3.3V (power), D4 VCC_3.3V (power), D7 GND (power), D10 GND (power), D14 GND (power), D16 GND (power), D20 GND (power), D23 GND (power), D26 VCC_3.3V (power), E5 VCC_3.3V (power), E10 VCC_3.3V (power), E11 GND (power), E13 GND (power), E15 GND (power), E19 GND (power), E22 GND (power), E25 VCC_3.3V (power), G5 GND (power), G26 GND (power), G27 VCC_3.3V (power), H3 VCC_3.3V (power), H4 GND (power), H25 GND (power), K5 GND (power), K26 VCC_3.3V (power), K27 GND (power), K28 VCC_1.5V (power), K29 VCC_1.5V (power), M1 VCC_1.5V (power), M2 VCC_1.5V (power), M3 GND (power), M4 VCC_3.3V (power), M25 GND (power), P5 GND (power), P26 GND (power), P27 VCC_3.3V (power), R25 GND (power), T3 VCC_3.3V (power), T4 GND (power), T26 GND (power), T27 VCC_3.3V (power), U28 VCC_1.5V (power), U29 VCC_1.5V (power), V25 GND (power), Y1 VCC_1.5V (power), Y2 VCC_1.5V (power), Y5 GND (power), Y26 GND (power), Y27 VCC_3.3V (power)
part D pins: A3 D39, A4 D30, A5 D22, A6 D6, A7 D53, A8 D21, A10 D44, A11 D12, A12 D35, A13 D3, A14 D42, A15 D34, A16 D2, A17 D41, A18 D1, A20 D8, A21 IRQ6#/DP6/CSE0, A22 IRQ1#/DP1/EXT_BG2#, A23 PGTA#/PUPMWAIT/PGPL4/PPBS#, A24 POE#/PSDRAS#/PGPL2, A25 PWE7#/PSDDQM7#/PBS7#, A26 PWE5#/PSDDQM5#/PBS5#, A27 BCTL0#, AA3 QREQ#, AB4 TRIS#, AE6 TDI, AF5 TDO, AF6 SRESET#, AG5 TCK, AG6 PORESET#, AH3 TRST#, AH4 CLKIN1, AH5 HRESET#, AJ3 TMS, AJ4 RSTCONF#, B4 D15, B5 D7, B6 D46, B7 D14, B8 D29, B10 D52, B11 D20, B12 D43, B13 D11, B14 D50, B15 D10, B16 D57, B17 D33, B18 D56, B20 D0, B21 IRQ5#/DP5/TBEN#/EXT_DBG3#, B22 DP0/RSRV#/EXT_BR2#, B23 PSDCAS#/PGPL3, B24 PSDWE#/PGPL1, B25 PWE6#/PSDDQM6#/PBS6#, B26 PWE4#/PSDDQM4#/PBS4#, C1 TSIZ0, C2 D63, C4 D47, C5 D23, C6 D54, C8 D37, C10 D60, C11 D28, C12 D51, C13 D19, C15 D26, C17 D25, C18 D48, C19 D24, C21 IRQ4#/DP4/CORE_SRESET#/EXT_BG3#, C22 TA#, C24 PWE3#/PSDDQM3#/PBS3#, C25 PWE0#/PSDDQM0#/PBS0#, C29 CS1#, D1 IRQ7#/INT_OUT#/APE#, D2 TSIZ2, D3 TBST#, D5 D55, D6 D62, D8 D45, D9 D5, D11 D36, D12 D59, D13 D27, D15 D18, D17, D18 D40, D19 D16, D21 IRQ3#/DP3/CKSTP_OUT#/EXT_BR3#, D22 PSDAMUX/PGPL5, D24 PWE2#/PSDDQM2#/PBS2#, D29 CS8#, E1 ARTRY#, E2 ABB#/IRQ2#, E3 TS#, E4 TSIZ1, E6 D31, E7 D38, E8 D61, E9 D13, E12 D4, E14 D58, E16 D49, E17 D9, E18 D32, E20 IRQ7#/DP7/CSE1, E21 IRQ2#/DP2/TLBISYNC#/EXT_DBG2#, E23 PSDA10/PGPL0, E24 PWE1#/PSDDQM1#/PBS1#, E27 CS2#, E28 CS3#, E29 CS9#, F1 TT0, F2 TT4, F3 AACK#, F4 BG#, F5 TSIZ3, F25 CS0#, F26 CS4#, F27 CS5#, F28 CS6#, F29 CS10#/BCTL1#, G1 A0, G2 TT3, G3 TT2, G4 TT1, G25 CS7#, G28 CS11#/AP0, H1 A3, H2 A2, H5 A1, J1 A8, J2 A7, J3 A6, J4 A5, J5 A4, K1 A12, K2 A11, K3 A10, K4 A9, L1 A17, L2 A16, L3 A15, L4 A14, L5 A13, M5 A18, N1 A23, N2 A22, N3 A21, N4 A20, N5 A19, P1 A27, P2 A26, P3 A25, P4 A24, R1 A28, R2 CPU_DBG#, R3 A29, R4 A31, R5 A30, T1 IRQ0#/NMI_OUT#, T2 ALE, T5 BADDR27, U1 BADDR28, U2 CI#/BADDR29/IRQ2#, U3 WT#/BADDR30/IRQ3#, U4 CPU_BG#/ADDR31/IRQ5#, V1 DBG#, V2 DBB#/IRQ3#, V3 PSDVAL#, V5 TEA#, W1 GBL#/IRQ1#, W2 MODCK1/AP1/TC0/BNKSEL0, W3 MODCK2/AP2/TC1/BNKSEL1, W4 MODCK3/AP3/TC2/BNKSEL2, W5 BR#, Y3 CPU_BR#, Y4 L2_HIT#/IRQ4#

## STC15F104W/SOP8
designator U?, comment STC15F104
单片机STC; Manufacturer: STC; 物料参考价格: 1.01; 物料说明: STC单片机,51兼容; Ordering NO.: STC15F104W/SO8; 物料型号说明: SO8封装; Name: 单片机; 物料替代型号: n/a
footprint SO8/1.27_4.9*3.9 (SOIC, 8-Leads, Body 4.9x3.9mm, Pitch 1.27mm,)
pins: 1 P3.4/RST/T0/~{INT2}/MCLKO, 2 VCC (power), 3 P3.5/T0CLKO/~{INT3}, 4 GND (power), 5 T2CLKO/~{INT4}/P3.0, 6 T2/P3.1, 7 INT0/P3.2, 8 RSTOUT_LOW/INT1/P3.3